# Altium footprint library Barsotion_PcbLib.PcbLib: 66 footprints (part 2 of 5)
Each footprint in its own frame and in the unit in brackets; x right, y up, seen from the top. Pads: shape width x height; smd on the part's side, far side on the other; paste and mask are expansions set on the pad; w line width, h text height; cw(c..) or ccw(c..) is an arc to the next point about the centre after c.
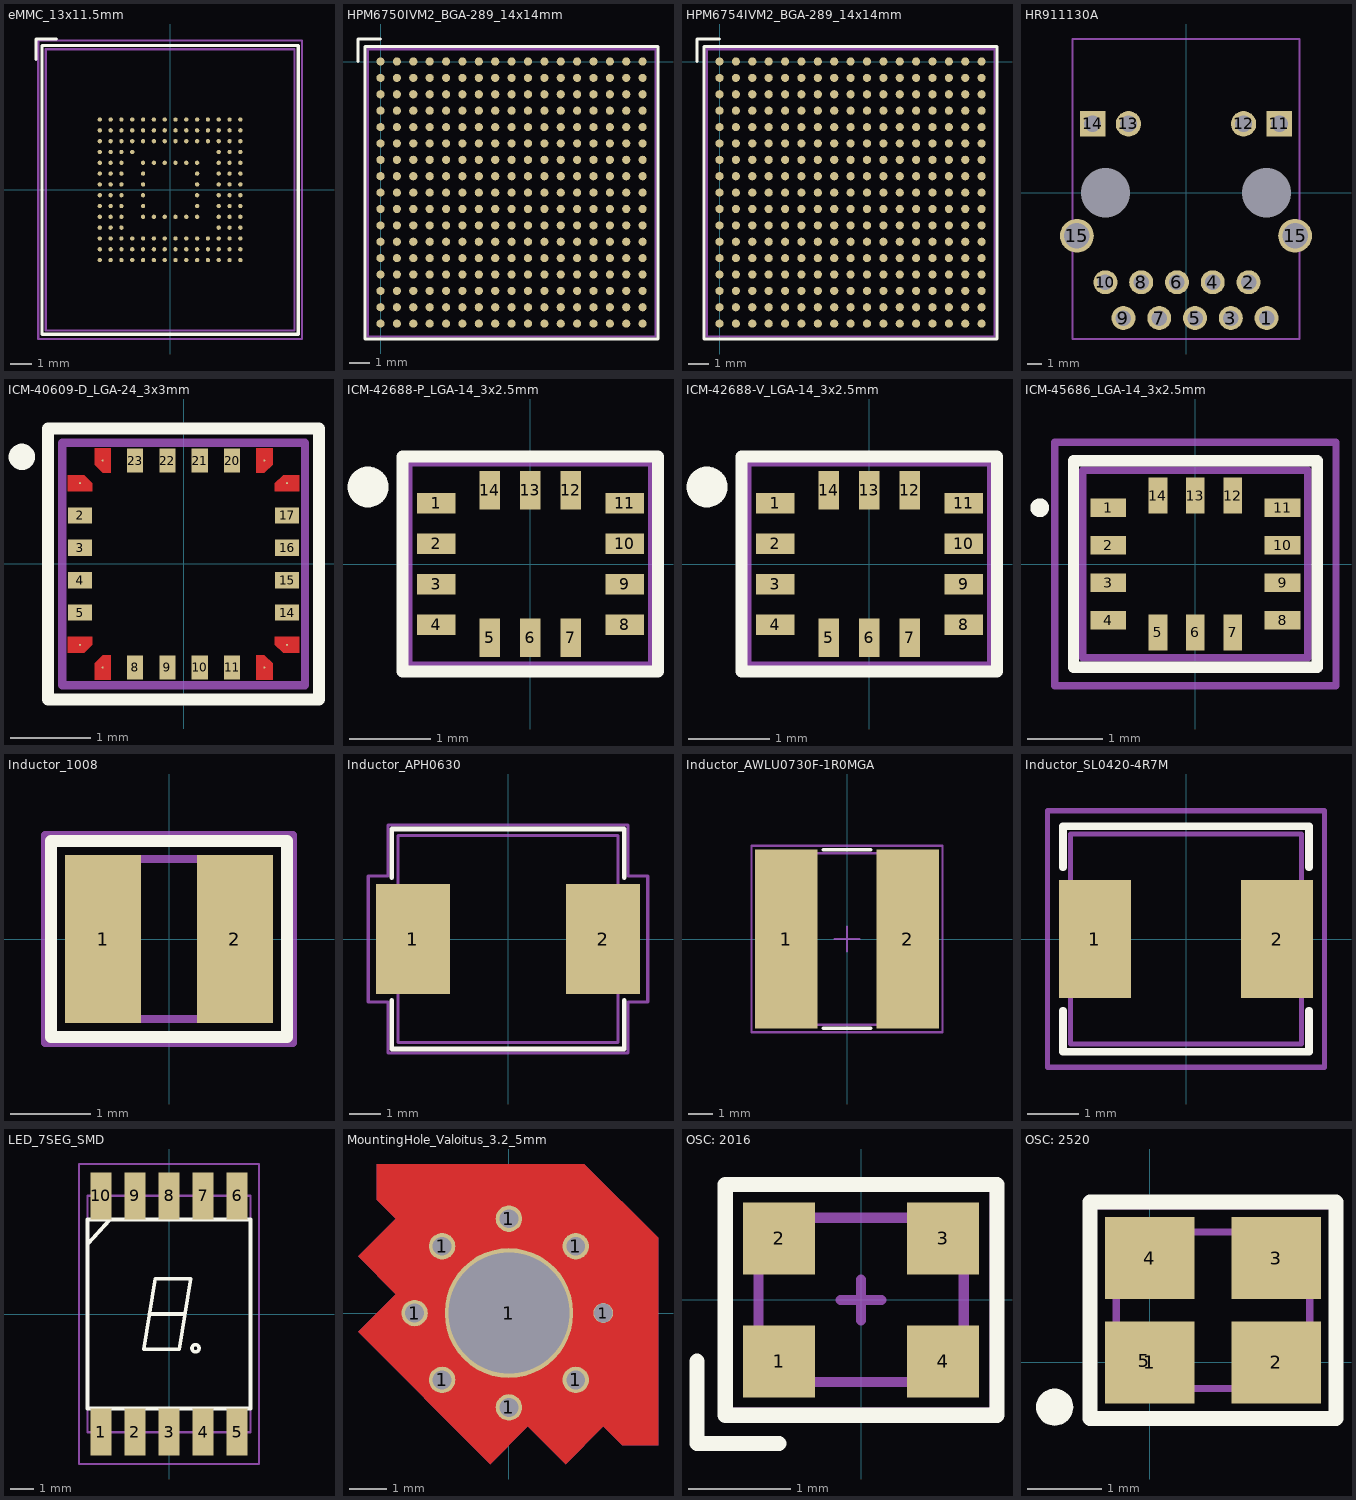
[diagram p1: the footprints below, top view; thin cyan lines are the x and y axes]

## eMMC_13x11.5mm [mm]
pads (153):
  round 0.2 smd mask+0.05: A1(-3.25,3.25) A2(-2.75,3.25) A3(-2.25,3.25) A4(-1.75,3.25) A5(-1.25,3.25) A6(-0.75,3.25) A7(-0.25,3.25) A8(0.25,3.25) A9(0.75,3.25) A10(1.25,3.25) A11(1.75,3.25) A12(2.25,3.25) A13(2.75,3.25) A14(3.25,3.25) B1(-3.25,2.75) B2(-2.75,2.75) B3(-2.25,2.75) B4(-1.75,2.75) B5(-1.25,2.75) B6(-0.75,2.75) B7(-0.25,2.75) B8(0.25,2.75) B9(0.75,2.75) B10(1.25,2.75) B11(1.75,2.75) B12(2.25,2.75) B13(2.75,2.75) B14(3.25,2.75) C1(-3.25,2.25) C2(-2.75,2.25) C3(-2.25,2.25) C4(-1.75,2.25) C5(-1.25,2.25) C6(-0.75,2.25) C7(-0.25,2.25) C8(0.25,2.25) C9(0.75,2.25) C10(1.25,2.25) C11(1.75,2.25) C12(2.25,2.25) C13(2.75,2.25) C14(3.25,2.25) D1(-3.25,1.75) D2(-2.75,1.75) D3(-2.25,1.75) D4(-1.75,1.75) D12(2.25,1.75) D13(2.75,1.75) D14(3.25,1.75) E1(-3.25,1.25) E2(-2.75,1.25) E3(-2.25,1.25) E5(-1.25,1.25) E6(-0.75,1.25) E7(-0.25,1.25) E8(0.25,1.25) E9(0.75,1.25) E10(1.25,1.25) E12(2.25,1.25) E13(2.75,1.25) E14(3.25,1.25) F1(-3.25,0.75) F2(-2.75,0.75) F3(-2.25,0.75) F5(-1.25,0.75) F10(1.25,0.75) F12(2.25,0.75) F13(2.75,0.75) F14(3.25,0.75) G1(-3.25,0.25) G2(-2.75,0.25) G3(-2.25,0.25) G5(-1.25,0.25) G10(1.25,0.25) G12(2.25,0.25) G13(2.75,0.25) G14(3.25,0.25) H1(-3.25,-0.25) H2(-2.75,-0.25) H3(-2.25,-0.25) H5(-1.25,-0.25) H10(1.25,-0.25) H12(2.25,-0.25) H13(2.75,-0.25) H14(3.25,-0.25) J1(-3.25,-0.75) J2(-2.75,-0.75) J3(-2.25,-0.75) J5(-1.25,-0.75) J10(1.25,-0.75) J12(2.25,-0.75) J13(2.75,-0.75) J14(3.25,-0.75) K1(-3.25,-1.25) K2(-2.75,-1.25) K3(-2.25,-1.25) K5(-1.25,-1.25) K6(-0.75,-1.25) K7(-0.25,-1.25) K8(0.25,-1.25) K9(0.75,-1.25) K10(1.25,-1.25) K12(2.25,-1.25) K13(2.75,-1.25) K14(3.25,-1.25) L1(-3.25,-1.75) L2(-2.75,-1.75) L3(-2.25,-1.75) L12(2.25,-1.75) L13(2.75,-1.75) L14(3.25,-1.75) M1(-3.25,-2.25) M2(-2.75,-2.25) M3(-2.25,-2.25) M4(-1.75,-2.25) M5(-1.25,-2.25) M6(-0.75,-2.25) M7(-0.25,-2.25) M8(0.25,-2.25) M9(0.75,-2.25) M10(1.25,-2.25) M11(1.75,-2.25) M12(2.25,-2.25) M13(2.75,-2.25) M14(3.25,-2.25) N1(-3.25,-2.75) N2(-2.75,-2.75) N3(-2.25,-2.75) N4(-1.75,-2.75) N5(-1.25,-2.75) N6(-0.75,-2.75) N7(-0.25,-2.75) N8(0.25,-2.75) N9(0.75,-2.75) N10(1.25,-2.75) N11(1.75,-2.75) N12(2.25,-2.75) N13(2.75,-2.75) N14(3.25,-2.75) P1(-3.25,-3.25) P2(-2.75,-3.25) P3(-2.25,-3.25) P4(-1.75,-3.25) P5(-1.25,-3.25) P6(-0.75,-3.25) P7(-0.25,-3.25) P8(0.25,-3.25) P9(0.75,-3.25) P10(1.25,-3.25) P11(1.75,-3.25) P12(2.25,-3.25) P13(2.75,-3.25) P14(3.25,-3.25)
Top Overlay:
  lines w0.15: -6.2,6.025 -6.2,6.975 -5.25,6.975 ; -5.925,-6.675 5.925,-6.675 5.925,6.675 -5.925,6.675 -5.925,-6.675
Mechanical 13:
  lines w0.1: -5.75,-6.5 5.75,-6.5 5.75,6.5 -5.75,6.5 -5.75,-6.5
Mechanical 15:
  lines w0.1: -6.1,-6.9 6.1,-6.9 6.1,6.9 -6.1,6.9 -6.1,-6.9
3D body "S40FC004C1B2I00300.stp": height 0.8, standoff 0, extent -4.5,-3.75 4.5,3.75

## HPM6750IVM2_BGA-289_14x14mm [mm]
pads (289):
  round 0.4 smd mask+0.05: A1(0,0) A2(0.8,0) A3(1.6,0) A4(2.4,0) A5(3.2,0) A6(4,0) A7(4.8,0) A8(5.6,0) A9(6.4,0) A10(7.2,0) A11(8,0) A12(8.8,0) A13(9.6,0) A14(10.4,0) A15(11.2,0) A16(12,0) A17(12.8,0) B1(0,-0.8) B2(0.8,-0.8) B3(1.6,-0.8) B4(2.4,-0.8) B5(3.2,-0.8) B6(4,-0.8) B7(4.8,-0.8) B8(5.6,-0.8) B9(6.4,-0.8) B10(7.2,-0.8) B11(8,-0.8) B12(8.8,-0.8) B13(9.6,-0.8) B14(10.4,-0.8) B15(11.2,-0.8) B16(12,-0.8) B17(12.8,-0.8) C1(0,-1.6) C2(0.8,-1.6) C3(1.6,-1.6) C4(2.4,-1.6) C5(3.2,-1.6) C6(4,-1.6) C7(4.8,-1.6) C8(5.6,-1.6) C9(6.4,-1.6) C10(7.2,-1.6) C11(8,-1.6) C12(8.8,-1.6) C13(9.6,-1.6) C14(10.4,-1.6) C15(11.2,-1.6) C16(12,-1.6) C17(12.8,-1.6) D1(0,-2.4) D2(0.8,-2.4) D3(1.6,-2.4) D4(2.4,-2.4) D5(3.2,-2.4) D6(4,-2.4) D7(4.8,-2.4) D8(5.6,-2.4) D9(6.4,-2.4) D10(7.2,-2.4) D11(8,-2.4) D12(8.8,-2.4) D13(9.6,-2.4) D14(10.4,-2.4) D15(11.2,-2.4) D16(12,-2.4) D17(12.8,-2.4) E1(0,-3.2) E2(0.8,-3.2) E3(1.6,-3.2) E4(2.4,-3.2) E5(3.2,-3.2) E6(4,-3.2) E7(4.8,-3.2) E8(5.6,-3.2) E9(6.4,-3.2) E10(7.2,-3.2) E11(8,-3.2) E12(8.8,-3.2) E13(9.6,-3.2) E14(10.4,-3.2) E15(11.2,-3.2) E16(12,-3.2) E17(12.8,-3.2) F1(0,-4) F2(0.8,-4) F3(1.6,-4) F4(2.4,-4) F5(3.2,-4) F6(4,-4) F7(4.8,-4) F8(5.6,-4) F9(6.4,-4) F10(7.2,-4) F11(8,-4) F12(8.8,-4) F13(9.6,-4) F14(10.4,-4) F15(11.2,-4) F16(12,-4) F17(12.8,-4) G1(0,-4.8) G2(0.8,-4.8) G3(1.6,-4.8) G4(2.4,-4.8) G5(3.2,-4.8) G6(4,-4.8) G7(4.8,-4.8) G8(5.6,-4.8) G9(6.4,-4.8) G10(7.2,-4.8) G11(8,-4.8) G12(8.8,-4.8) G13(9.6,-4.8) G14(10.4,-4.8) G15(11.2,-4.8) G16(12,-4.8) G17(12.8,-4.8) H1(0,-5.6) H2(0.8,-5.6) H3(1.6,-5.6) H4(2.4,-5.6) H5(3.2,-5.6) H6(4,-5.6) H7(4.8,-5.6) H8(5.6,-5.6) H9(6.4,-5.6) H10(7.2,-5.6) H11(8,-5.6) H12(8.8,-5.6) H13(9.6,-5.6) H14(10.4,-5.6) H15(11.2,-5.6) H16(12,-5.6) H17(12.8,-5.6) J1(0,-6.4) J2(0.8,-6.4) J3(1.6,-6.4) J4(2.4,-6.4) J5(3.2,-6.4) J6(4,-6.4) J7(4.8,-6.4) J8(5.6,-6.4) J9(6.4,-6.4) J10(7.2,-6.4) J11(8,-6.4) J12(8.8,-6.4) J13(9.6,-6.4) J14(10.4,-6.4) J15(11.2,-6.4) J16(12,-6.4) J17(12.8,-6.4) K1(0,-7.2) K2(0.8,-7.2) K3(1.6,-7.2) K4(2.4,-7.2) K5(3.2,-7.2) K6(4,-7.2) K7(4.8,-7.2) K8(5.6,-7.2) K9(6.4,-7.2) K10(7.2,-7.2) K11(8,-7.2) K12(8.8,-7.2) K13(9.6,-7.2) K14(10.4,-7.2) K15(11.2,-7.2) K16(12,-7.2) K17(12.8,-7.2) L1(0,-8) L2(0.8,-8) L3(1.6,-8) L4(2.4,-8) L5(3.2,-8) L6(4,-8) L7(4.8,-8) L8(5.6,-8) L9(6.4,-8) L10(7.2,-8) L11(8,-8) L12(8.8,-8) L13(9.6,-8) L14(10.4,-8) L15(11.2,-8) L16(12,-8) L17(12.8,-8) M1(0,-8.8) M2(0.8,-8.8) M3(1.6,-8.8) M4(2.4,-8.8) M5(3.2,-8.8) M6(4,-8.8) M7(4.8,-8.8) M8(5.6,-8.8) M9(6.4,-8.8) M10(7.2,-8.8) M11(8,-8.8) M12(8.8,-8.8) M13(9.6,-8.8) M14(10.4,-8.8) M15(11.2,-8.8) M16(12,-8.8) M17(12.8,-8.8) N1(0,-9.6) N2(0.8,-9.6) N3(1.6,-9.6) N4(2.4,-9.6) N5(3.2,-9.6) N6(4,-9.6) N7(4.8,-9.6) N8(5.6,-9.6) N9(6.4,-9.6) N10(7.2,-9.6) N11(8,-9.6) N12(8.8,-9.6) N13(9.6,-9.6) N14(10.4,-9.6) N15(11.2,-9.6) N16(12,-9.6) N17(12.8,-9.6) P1(0,-10.4) P2(0.8,-10.4) P3(1.6,-10.4) P4(2.4,-10.4) P5(3.2,-10.4) P6(4,-10.4) P7(4.8,-10.4) P8(5.6,-10.4) P9(6.4,-10.4) P10(7.2,-10.4) P11(8,-10.4) P12(8.8,-10.4) P13(9.6,-10.4) P14(10.4,-10.4) P15(11.2,-10.4) P16(12,-10.4) P17(12.8,-10.4) R1(0,-11.2) R2(0.8,-11.2) R3(1.6,-11.2) R4(2.4,-11.2) R5(3.2,-11.2) R6(4,-11.2) R7(4.8,-11.2) R8(5.6,-11.2) R9(6.4,-11.2) R10(7.2,-11.2) R11(8,-11.2) R12(8.8,-11.2) R13(9.6,-11.2) R14(10.4,-11.2) R15(11.2,-11.2) R16(12,-11.2) R17(12.8,-11.2) T1(0,-12) T2(0.8,-12) T3(1.6,-12) T4(2.4,-12) T5(3.2,-12) T6(4,-12) T7(4.8,-12) T8(5.6,-12) T9(6.4,-12) T10(7.2,-12) T11(8,-12) T12(8.8,-12) T13(9.6,-12) T14(10.4,-12) T15(11.2,-12) T16(12,-12) T17(12.8,-12) U1(0,-12.8) U2(0.8,-12.8) U3(1.6,-12.8) U4(2.4,-12.8) U5(3.2,-12.8) U6(4,-12.8) U7(4.8,-12.8) U8(5.6,-12.8) U9(6.4,-12.8) U10(7.2,-12.8) U11(8,-12.8) U12(8.8,-12.8) U13(9.6,-12.8) U14(10.4,-12.8) U15(11.2,-12.8) U16(12,-12.8) U17(12.8,-12.8)
Top Overlay:
  lines w0.15: -1.1,0 -1.1,1.1 0,1.1 ; -0.75,-13.55 13.55,-13.55 13.55,0.725 -0.75,0.725 -0.75,-13.55
Mechanical 13:
  lines w0.1: -0.625,-13.425 13.425,-13.425 13.425,0.6 -0.625,0.6 -0.625,-13.425
3D body "HPM6750IVM2.STEP": height 1.3, standoff -0.05, extent -0.6,-13.4 13.4,0.6

## HPM6754IVM2_BGA-289_14x14mm [mm]
pads (289):
  round 0.4 smd mask+0.05: A1(0,0) A2(0.8,0) A3(1.6,0) A4(2.4,0) A5(3.2,0) A6(4,0) A7(4.8,0) A8(5.6,0) A9(6.4,0) A10(7.2,0) A11(8,0) A12(8.8,0) A13(9.6,0) A14(10.4,0) A15(11.2,0) A16(12,0) A17(12.8,0) B1(0,-0.8) B2(0.8,-0.8) B3(1.6,-0.8) B4(2.4,-0.8) B5(3.2,-0.8) B6(4,-0.8) B7(4.8,-0.8) B8(5.6,-0.8) B9(6.4,-0.8) B10(7.2,-0.8) B11(8,-0.8) B12(8.8,-0.8) B13(9.6,-0.8) B14(10.4,-0.8) B15(11.2,-0.8) B16(12,-0.8) B17(12.8,-0.8) C1(0,-1.6) C2(0.8,-1.6) C3(1.6,-1.6) C4(2.4,-1.6) C5(3.2,-1.6) C6(4,-1.6) C7(4.8,-1.6) C8(5.6,-1.6) C9(6.4,-1.6) C10(7.2,-1.6) C11(8,-1.6) C12(8.8,-1.6) C13(9.6,-1.6) C14(10.4,-1.6) C15(11.2,-1.6) C16(12,-1.6) C17(12.8,-1.6) D1(0,-2.4) D2(0.8,-2.4) D3(1.6,-2.4) D4(2.4,-2.4) D5(3.2,-2.4) D6(4,-2.4) D7(4.8,-2.4) D8(5.6,-2.4) D9(6.4,-2.4) D10(7.2,-2.4) D11(8,-2.4) D12(8.8,-2.4) D13(9.6,-2.4) D14(10.4,-2.4) D15(11.2,-2.4) D16(12,-2.4) D17(12.8,-2.4) E1(0,-3.2) E2(0.8,-3.2) E3(1.6,-3.2) E4(2.4,-3.2) E5(3.2,-3.2) E6(4,-3.2) E7(4.8,-3.2) E8(5.6,-3.2) E9(6.4,-3.2) E10(7.2,-3.2) E11(8,-3.2) E12(8.8,-3.2) E13(9.6,-3.2) E14(10.4,-3.2) E15(11.2,-3.2) E16(12,-3.2) E17(12.8,-3.2) F1(0,-4) F2(0.8,-4) F3(1.6,-4) F4(2.4,-4) F5(3.2,-4) F6(4,-4) F7(4.8,-4) F8(5.6,-4) F9(6.4,-4) F10(7.2,-4) F11(8,-4) F12(8.8,-4) F13(9.6,-4) F14(10.4,-4) F15(11.2,-4) F16(12,-4) F17(12.8,-4) G1(0,-4.8) G2(0.8,-4.8) G3(1.6,-4.8) G4(2.4,-4.8) G5(3.2,-4.8) G6(4,-4.8) G7(4.8,-4.8) G8(5.6,-4.8) G9(6.4,-4.8) G10(7.2,-4.8) G11(8,-4.8) G12(8.8,-4.8) G13(9.6,-4.8) G14(10.4,-4.8) G15(11.2,-4.8) G16(12,-4.8) G17(12.8,-4.8) H1(0,-5.6) H2(0.8,-5.6) H3(1.6,-5.6) H4(2.4,-5.6) H5(3.2,-5.6) H6(4,-5.6) H7(4.8,-5.6) H8(5.6,-5.6) H9(6.4,-5.6) H10(7.2,-5.6) H11(8,-5.6) H12(8.8,-5.6) H13(9.6,-5.6) H14(10.4,-5.6) H15(11.2,-5.6) H16(12,-5.6) H17(12.8,-5.6) J1(0,-6.4) J2(0.8,-6.4) J3(1.6,-6.4) J4(2.4,-6.4) J5(3.2,-6.4) J6(4,-6.4) J7(4.8,-6.4) J8(5.6,-6.4) J9(6.4,-6.4) J10(7.2,-6.4) J11(8,-6.4) J12(8.8,-6.4) J13(9.6,-6.4) J14(10.4,-6.4) J15(11.2,-6.4) J16(12,-6.4) J17(12.8,-6.4) K1(0,-7.2) K2(0.8,-7.2) K3(1.6,-7.2) K4(2.4,-7.2) K5(3.2,-7.2) K6(4,-7.2) K7(4.8,-7.2) K8(5.6,-7.2) K9(6.4,-7.2) K10(7.2,-7.2) K11(8,-7.2) K12(8.8,-7.2) K13(9.6,-7.2) K14(10.4,-7.2) K15(11.2,-7.2) K16(12,-7.2) K17(12.8,-7.2) L1(0,-8) L2(0.8,-8) L3(1.6,-8) L4(2.4,-8) L5(3.2,-8) L6(4,-8) L7(4.8,-8) L8(5.6,-8) L9(6.4,-8) L10(7.2,-8) L11(8,-8) L12(8.8,-8) L13(9.6,-8) L14(10.4,-8) L15(11.2,-8) L16(12,-8) L17(12.8,-8) M1(0,-8.8) M2(0.8,-8.8) M3(1.6,-8.8) M4(2.4,-8.8) M5(3.2,-8.8) M6(4,-8.8) M7(4.8,-8.8) M8(5.6,-8.8) M9(6.4,-8.8) M10(7.2,-8.8) M11(8,-8.8) M12(8.8,-8.8) M13(9.6,-8.8) M14(10.4,-8.8) M15(11.2,-8.8) M16(12,-8.8) M17(12.8,-8.8) N1(0,-9.6) N2(0.8,-9.6) N3(1.6,-9.6) N4(2.4,-9.6) N5(3.2,-9.6) N6(4,-9.6) N7(4.8,-9.6) N8(5.6,-9.6) N9(6.4,-9.6) N10(7.2,-9.6) N11(8,-9.6) N12(8.8,-9.6) N13(9.6,-9.6) N14(10.4,-9.6) N15(11.2,-9.6) N16(12,-9.6) N17(12.8,-9.6) P1(0,-10.4) P2(0.8,-10.4) P3(1.6,-10.4) P4(2.4,-10.4) P5(3.2,-10.4) P6(4,-10.4) P7(4.8,-10.4) P8(5.6,-10.4) P9(6.4,-10.4) P10(7.2,-10.4) P11(8,-10.4) P12(8.8,-10.4) P13(9.6,-10.4) P14(10.4,-10.4) P15(11.2,-10.4) P16(12,-10.4) P17(12.8,-10.4) R1(0,-11.2) R2(0.8,-11.2) R3(1.6,-11.2) R4(2.4,-11.2) R5(3.2,-11.2) R6(4,-11.2) R7(4.8,-11.2) R8(5.6,-11.2) R9(6.4,-11.2) R10(7.2,-11.2) R11(8,-11.2) R12(8.8,-11.2) R13(9.6,-11.2) R14(10.4,-11.2) R15(11.2,-11.2) R16(12,-11.2) R17(12.8,-11.2) T1(0,-12) T2(0.8,-12) T3(1.6,-12) T4(2.4,-12) T5(3.2,-12) T6(4,-12) T7(4.8,-12) T8(5.6,-12) T9(6.4,-12) T10(7.2,-12) T11(8,-12) T12(8.8,-12) T13(9.6,-12) T14(10.4,-12) T15(11.2,-12) T16(12,-12) T17(12.8,-12) U1(0,-12.8) U2(0.8,-12.8) U3(1.6,-12.8) U4(2.4,-12.8) U5(3.2,-12.8) U6(4,-12.8) U7(4.8,-12.8) U8(5.6,-12.8) U9(6.4,-12.8) U10(7.2,-12.8) U11(8,-12.8) U12(8.8,-12.8) U13(9.6,-12.8) U14(10.4,-12.8) U15(11.2,-12.8) U16(12,-12.8) U17(12.8,-12.8)
Top Overlay:
  lines w0.15: -1.1,0 -1.1,1.1 0,1.1 ; -0.75,-13.55 -0.75,0.725 13.55,0.725 13.55,-13.55 -0.75,-13.55
Mechanical 13:
  lines w0.1: -0.625,-13.425 -0.625,0.6 13.425,0.6 13.425,-13.425 -0.625,-13.425
3D body "HPM6750IVM2.STEP": height 1.3, standoff -0.05, extent -0.6,-13.4 13.4,0.6

## HR911130A [mm]
pads (18):
  round 1.7 hole 1.1: 1(5.72,-8.89) 2(4.44,-6.35) 3(3.18,-8.89) 4(1.9,-6.35) 5(0.64,-8.89) 6(-0.64,-6.35) 7(-1.9,-8.89) 8(-3.18,-6.35) 9(-4.44,-8.89) 10(-5.72,-6.35)
  rect 1.8x1.8 hole 1.2: 11(6.625,4.9) 14(-6.625,4.9)
  round 1.8 hole 1.2: 12(4.085,4.9) 13(-4.085,4.9)
  round 2.4 hole 1.8: 15(-7.745,-3.05) 15(7.745,-3.05)
  round 2.5 hole 3.5 unplated: ""(-5.715,0) ""(5.715,0)
Mechanical 1:
  lines w0.15: -8.05,-10.38 8.05,-10.38 8.05,10.92 -8.05,10.92 -8.05,-10.38
3D body "HR911130A.STEP": height 13.5, standoff -3.05, extent -8.02,-10.4 8.02,10.9

## ICM-40609-D_LGA-24_3x3mm [mm]
pads (24):
  round 0.025 smd mask+0.05: 1(-1.28,1) 6(-1.28,-1) 7(-1,-1.28) 12(1,-1.28) 13(1.28,-1) 18(1.28,1) 19(1,1.28) 24(-1,1.28)
  rect 0.3x0.2 smd mask+0.05: 2(-1.28,0.6) 3(-1.28,0.2) 4(-1.28,-0.2) 5(-1.28,-0.6) 14(1.28,-0.6) 15(1.28,-0.2) 16(1.28,0.2) 17(1.28,0.6)
  rect 0.2x0.3 smd mask+0.05: 8(-0.6,-1.28) 9(-0.2,-1.28) 10(0.2,-1.28) 11(0.6,-1.28) 20(0.6,1.28) 21(0.2,1.28) 22(-0.2,1.28) 23(-0.6,1.28)
Top Layer:
  region: -1.43,0.9 -1.43,1.1 -1.23,1.1 -1.13,1 -1.13,0.9
  region: 0.9,1.43 1.1,1.43 1.1,1.23 1,1.13 0.9,1.13
  region: -0.9,-1.43 -1.1,-1.43 -1.1,-1.23 -1,-1.13 -0.9,-1.13
  region: -1.1,1.43 -0.9,1.43 -0.9,1.13 -1,1.13 -1.1,1.23
  region: 1.1,-1.43 0.9,-1.43 0.9,-1.13 1,-1.13 1.1,-1.23
  region: 1.43,-0.9 1.43,-1.1 1.23,-1.1 1.13,-1 1.13,-0.9
  region: 1.43,1.1 1.43,0.9 1.13,0.9 1.13,1 1.23,1.1
  region: -1.43,-1.1 -1.43,-0.9 -1.13,-0.9 -1.13,-1 -1.23,-1.1
Top Overlay:
  circle w0.254: c-2,1.325 r0.035
  lines w0.15: -1.675,-1.675 1.675,-1.675 1.675,1.675 0.15,1.675 -1.675,1.675 -1.675,-1.675
Mechanical 1:
  lines w0.1: -1.5,-1.5 1.5,-1.5 1.5,1.175 1.5,1.5 1.025,1.5 -1.5,1.5 -1.5,-1.5
3D body "QFN-24-1EP_3x3mm_P0.4mm_EP1.75x1.6mm.step": height 1.02, standoff 0, extent -1.5,-1.5 1.5,1.5

## ICM-42688-P_LGA-14_3x2.5mm [mm]
pads (14):
  rect 0.475x0.25 smd mask+0.05: 1(-1.162,0.75) 2(-1.162,0.25) 3(-1.162,-0.25) 4(-1.162,-0.75) 8(1.162,-0.75) 9(1.162,-0.25) 10(1.162,0.25) 11(1.162,0.75)
  rect 0.25x0.475 smd mask+0.05: 5(-0.5,-0.913) 6(0,-0.913) 7(0.5,-0.913) 12(0.5,0.913) 13(0,0.913) 14(-0.5,0.913)
Top Overlay:
  circle w0.254: c-2,0.95 r0.125
  lines w0.15: -1.575,-1.325 1.575,-1.325 1.575,1.325 -1.575,1.325 -1.575,-1.325
Mechanical 1:
  lines w0.1: -1.5,-1.25 1.5,-1.25 1.5,1.25 -1.5,1.25 -1.5,-1.25
3D body "ICM-42688-P_LGA-14_3x2.5mm.step": height 0.78, standoff 0, extent -1.5,-1.25 1.5,1.25

## ICM-42688-V_LGA-14_3x2.5mm [mm]
pads (14):
  rect 0.475x0.25 smd mask+0.05: 1(-1.162,0.75) 2(-1.162,0.25) 3(-1.162,-0.25) 4(-1.162,-0.75) 8(1.162,-0.75) 9(1.162,-0.25) 10(1.162,0.25) 11(1.162,0.75)
  rect 0.25x0.475 smd mask+0.05: 5(-0.5,-0.913) 6(0,-0.913) 7(0.5,-0.913) 12(0.5,0.913) 13(0,0.913) 14(-0.5,0.913)
Top Overlay:
  circle w0.254: c-2,0.95 r0.125
  lines w0.15: -1.575,-1.325 1.575,-1.325 1.575,1.325 -1.575,1.325 -1.575,-1.325
Mechanical 1:
  lines w0.1: -1.5,-1.25 1.5,-1.25 1.5,1.25 -1.5,1.25 -1.5,-1.25
3D body "ICM-42688-P_LGA-14_3x2.5mm.step": height 0.78, standoff 0, extent -1.5,-1.25 1.5,1.25

## ICM-45686_LGA-14_3x2.5mm [mm]
pads (14):
  rect 0.475x0.25 smd mask+0.05: 1(-1.162,0.75) 2(-1.162,0.25) 3(-1.162,-0.25) 4(-1.162,-0.75) 8(1.162,-0.75) 9(1.162,-0.25) 10(1.162,0.25) 11(1.162,0.75)
  rect 0.25x0.475 smd mask+0.05: 5(-0.5,-0.913) 6(0,-0.913) 7(0.5,-0.913) 12(0.5,0.913) 13(0,0.913) 14(-0.5,0.913)
Top Overlay:
  circle w0.15: c-2.075,0.75 r0.05
  lines w0.15: -1.625,-1.375 1.625,-1.375 1.625,1.375 -1.625,1.375 -1.625,-1.375
Mechanical 1:
  lines w0.1: -1.5,-1.25 1.5,-1.25 1.5,1.25 -1.5,1.25 -1.5,-1.25
Mechanical 15:
  lines w0.1: -1.875,-1.625 1.875,-1.625 1.875,1.625 -1.875,1.625 -1.875,-1.625
3D body "ICM-42688-P_LGA-14_3x2.5mm.step": height 0.78, standoff 0, extent -1.5,-1.25 1.5,1.25

## Inductor_1008 [mm]
pads (2):
  rect 0.95x2.1 smd: 1(-0.825,0) 2(0.825,0)
Top Overlay:
  lines w0.15: -1.475,-1.225 1.475,-1.225 1.475,1.225 -1.475,1.225 -1.475,-1.225
Mechanical 13:
  lines w0.1: -1.25,-1 1.25,-1 1.25,1 -1.25,1 -1.25,-1
Mechanical 15:
  lines w0.1: -1.55,-1.3 1.55,-1.3 1.55,1.3 -1.55,1.3 -1.55,-1.3
3D body "L_1008_2520Metric.step": height 1.2, standoff 0, extent -1.25,-1 1.25,1

## Inductor_APH0630 [mm]
pads (2):
  rect 2.35x3.5 smd: 1(-3.025,0) 2(3.025,0)
Top Overlay:
  lines w0.15: -3.7,-1.95 -3.7,-3.45 -3.7,-3.475 -3.7,-3.5 -3.175,-3.5 2.8,-3.5 3.7,-3.5 3.7,-1.95 ; -3.7,1.95 -3.7,3.45 -3.7,3.475 -3.7,3.5 -2.875,3.5 3.55,3.5 3.625,3.5 3.65,3.5 3.7,3.5 3.7,1.95
Mechanical 13:
  lines w0.1: -3.5,-3.3 3.5,-3.3 3.5,3.3 -3.5,3.3 -3.5,-3.3
Mechanical 15:
  lines w0.1: -4.45,-2 -3.825,-2 -3.825,-3.625 3.825,-3.625 3.825,-2 4.2,-2 4.45,-2 4.45,2 3.825,2 3.825,3.625 -3.825,3.625 -3.825,2 -4.45,2 -4.45,1.75 -4.45,-1.825 -4.45,-2
3D body "L_APV_APH0630.step": height 2.8, standoff 0, extent -3.51,-3.3 3.51,3.3

## Inductor_AWLU0730F-1R0MGA [mm]
pads (2):
  rect 2.55x7.3 smd: 1(-2.475,0) 2(2.475,0)
Top Overlay:
  lines w0.15: -0.975,-3.65 0.975,-3.65 ; -0.975,3.65 0.975,3.65
Mechanical 13:
  lines w0.1: -3.6,-3.5 3.6,-3.5 3.6,3.5 -3.6,3.5 -3.6,-3.5
Mechanical 15:
  lines w0.1: -0.5,0 0.5,0 ; 0,-0.5 0,0.5 ; -3.9,-3.8 3.9,-3.8 3.9,3.8 -3.9,3.8 -3.9,-3.8
3D body: height 3, standoff 0, extent -3.5,-3.5 3.5,3.5

## Inductor_SL0420-4R7M [mm]
pads (2):
  rect 1.4x2.3 smd mask+0.05: 1(-1.775,0) 2(1.775,0)
Top Overlay:
  lines w0.15: -2.4,-1.4 -2.4,-2.2 2.4,-2.2 2.4,-1.4 ; -2.4,1.4 -2.4,2.2 2.4,2.2 2.4,1.4
Mechanical 1:
  lines w0.1: -2.25,-2.05 2.25,-2.05 2.25,2.05 -2.25,2.05 -2.25,-2.05
Mechanical 13:
  lines w0.1: -2.7,-2.5 2.7,-2.5 2.7,2.5 -2.7,2.5 -2.7,-2.5
3D body "L_TechFuse_SL0420.step": height 2, standoff 0, extent -2.26,-2.05 2.26,2.05

## LED_7SEG_SMD [mm]
pads (10):
  rect 0.9x2 smd mask+0.05: 1(-2.88,-5) 2(-1.44,-5) 3(0,-5) 4(1.44,-5) 5(2.88,-5) 6(2.88,5) 7(1.44,5) 8(0,5) 9(-1.44,5) 10(-2.88,5)
Top Overlay:
  circle w0.15: c1.125,-1.45 r0.152
  lines w0.15: -3.45,2.945 -2.5,4 ; -0.825,0 0.675,0 ; -3.45,-4 3.45,-4 3.45,4 -3.45,4 -3.45,-4 ; -1.075,-1.5 0.425,-1.5 0.925,1.5 -0.575,1.5 -1.075,-1.5
Mechanical 13:
  lines w0.1: -3.45,-5 3.45,-5 3.45,5 -3.45,5 -3.45,-5
Mechanical 15:
  lines w0.1: -3.81,-6.35 3.81,-6.35 3.81,6.35 -3.81,6.35 -3.81,-6.35
3D body "LED_7SEG_SMD_10x6.9mm.stp": height 3, standoff -0.05, extent -3.45,-5 3.45,5

## MountingHole_Valoitus_3.2_5mm [mm]
pads (9):
  round 0.7 hole 0.5: 1(-2.5,0) 1(-1.77,-1.77) 1(-1.77,1.77) 1(0,-2.5) 1(0,2.5) 1(1.77,-1.77) 1(1.77,1.77)
  oval 3.4x3.44 hole 3.2: 1(0,0)
  round 0.525 hole 0.5: 1(2.5,0)
Top Layer:
  region: -0.5,-4 0.5,-3 1.5,-4 2.5,-3 3,-3.5 3.95,-3.5 3.95,2 2,3.95 -3.5,3.95 -3.5,3 -3,2.5 -4,1.5 -3,0.5 -4,-0.5
Bottom Layer:
  region: -0.5,-4 0.5,-3 1.5,-4 2.5,-3 3,-3.5 3.95,-3.5 3.95,2 2,3.95 -3.5,3.95 -3.5,3 -3,2.5 -4,1.5 -3,0.5 -4,-0.5

## OSC: 2016 [mm]
pads (4):
  rect 0.7x0.7 smd: 1(-0.8,-0.6) 2(-0.8,0.6) 3(0.8,0.6) 4(0.8,-0.6)
Top Overlay:
  lines w0.15: -1.6,-0.6 -1.6,-1.4 -0.8,-1.4 ; -1.325,-1.125 1.325,-1.125 1.325,1.125 -1.325,1.125 -1.325,-1.125
Mechanical 13:
  lines w0.1: -1,-0.8 1,-0.8 1,0.8 -1,0.8 -1,-0.8
Mechanical 15:
  lines w0.1: -0.2,0 0.2,0 ; 0,-0.2 0,0.2 ; -1.3,-1.1 1.3,-1.1 1.3,1.1 -1.3,1.1 -1.3,-1.1
3D body "User Library-XRCGB27M000F2P00R0.STEP": height 0.65, standoff 0, extent -1,-0.8 1,0.8

## OSC: 2520 [mm]
pads (6):
  rect 1.2x1.1 smd: 1(0,0) 2(1.7,0) 3(1.7,1.4) 4(0,1.4)
  round 0.5 on Mech1: 5(-0.075,0.025)
  round 0.5 on Top Overlay: ""(-1.275,-0.6)
Top Overlay:
  lines w0.2: -0.8,-0.75 -0.8,2.15 2.5,2.15 2.5,-0.75 -0.8,-0.75
Mechanical 1:
  lines w0.1: -0.45,-0.35 2.15,-0.35 2.15,1.75 -0.45,1.75 -0.45,-0.35
Mechanical 15:
  lines w0.1: -0.8,-0.7 2.5,-0.7 2.5,2.1 -0.8,2.1 -0.8,-0.7
3D body "User Library-Crystal NDK NX2520SA series.STEP": height 0.55, standoff 0, extent -0.45,-0.35 2.15,1.75